# Altium schematic symbol library Test_point.SchLib: 1 symbol
Pins are listed as number, name and electrical type; pins without a type are passive.

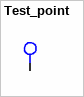
[diagram p0: symbol Test_point]

## Test_point
designator T?
pins: 1